# EAGLE library part INA199 (library Synapseware)
INA199-Q1 Automotive, 26-V, Bidirectional, Zero-Drift, Low- or High-Side, Voltage-Output, Current-Shunt Monitor
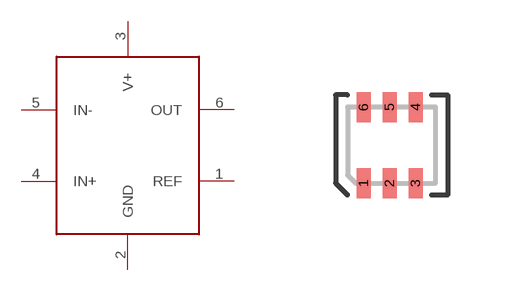
[diagram p28: symbol with the pads of SC70-6; footprint SC70-6]

Designator prefix -

## INA199SC70  [SC70-6]
1  REF
2  GND
3  V+
4  IN+
5  IN-
6  OUT

## Footprint SC70-6 (pad centres in mm)
smd 0.35 x 0.75: 1 0,0; 2 0.65,0; 3 1.3,0; 4 1.3,1.9; 5 0.65,1.9; 6 0,1.9